# Altium schematic symbol library WA-SMSI.SchLib: 179 symbols (part 2 of 3)
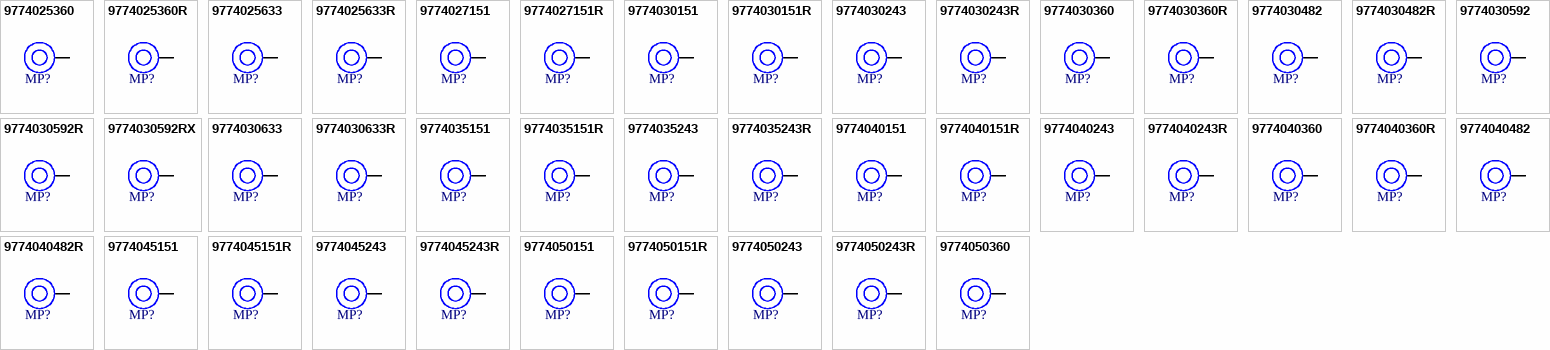
[diagram p5: symbols 9774025360 to 9774050360]

## 9774040360
designator MP?, comment M3 x 4mm  (value not drawn)
WA-SMSI SMT Steel Spacer with internal Thread, OD 6mm, M3 x 4mm; Manufacturer Part Number: 9774040360; Manufacturer: Wurth Elektronik; Inside Diameter: 4.2mm; Surface: Tin; ComponentLink1Description: Website Link; ComponentLink1URL: https://www.we-online.com/redexpert/article/9774040360?ad; ComponentLink2Description: Datasheet Link; ComponentLink2URL: https://www.we-online.com/redexpert/spec/9774040360?ad; Category: SMT Spacers; Match Code: WA-SMSI; Mount: Surface Mount; Operating Temperature Max: 150°C; Operating Temperature Min: -55°C; Packaging: Bulk; Height: 4mm; Material: Steel; Outside Diameter: 6mm; Thread Size: M3
footprint 9774040360
pins: 1

## 9774040360R
designator MP?, comment M3 x 4mm  (value not drawn)
WA-SMSI SMT Steel Spacer with internal Thread, OD 6mm, M3 x 4mm; Manufacturer Part Number: 9774040360R; Manufacturer: Wurth Elektronik; Inside Diameter: 4.2mm; Surface: Tin; ComponentLink1Description: Website Link; ComponentLink1URL: https://www.we-online.com/redexpert/article/9774040360R?ad; ComponentLink2Description: Datasheet Link; ComponentLink2URL: https://www.we-online.com/redexpert/spec/9774040360R?ad; Category: SMT Spacers; Match Code: WA-SMSI; Mount: Surface Mount; Operating Temperature Max: 150°C; Operating Temperature Min: -55°C; Packaging: Tape and Reel; Height: 4mm; Material: Steel; Outside Diameter: 6mm; Thread Size: M3
footprint 9774040360
pins: 1

## 9774040482
designator MP?, comment M4 x 4mm  (value not drawn)
WA-SMSI SMT Steel Spacer with internal Thread, OD 8.2mm, M4 x 4mm; Manufacturer Part Number: 9774040482; Manufacturer: Wurth Elektronik; Inside Diameter: 5.2mm; Surface: Tin; ComponentLink1Description: Website Link; ComponentLink1URL: https://www.we-online.com/redexpert/article/9774040482?ad; ComponentLink2Description: Datasheet Link; ComponentLink2URL: https://www.we-online.com/redexpert/spec/9774040482?ad; Category: SMT Spacers; Match Code: WA-SMSI; Mount: Surface Mount; Operating Temperature Max: 150°C; Operating Temperature Min: -55°C; Packaging: Bulk; Height: 4mm; Material: Steel; Outside Diameter: 8.2mm; Thread Size: M4
footprint 9774040482
pins: 1

## 9774040482R
designator MP?, comment M4 x 4mm  (value not drawn)
WA-SMSI SMT Steel Spacer with internal Thread, OD 8.2mm, M4 x 4mm; Manufacturer Part Number: 9774040482R; Manufacturer: Wurth Elektronik; Inside Diameter: 5.2mm; Surface: Tin; ComponentLink1Description: Website Link; ComponentLink1URL: https://www.we-online.com/redexpert/article/9774040482R?ad; ComponentLink2Description: Datasheet Link; ComponentLink2URL: https://www.we-online.com/redexpert/spec/9774040482R?ad; Category: SMT Spacers; Match Code: WA-SMSI; Mount: Surface Mount; Operating Temperature Max: 150°C; Operating Temperature Min: -55°C; Packaging: Tape and Reel; Height: 4mm; Material: Steel; Outside Diameter: 8.2mm; Thread Size: M4
footprint 9774040482
pins: 1

## 9774045151
designator MP?, comment M2.5 x 4.5mm  (value not drawn)
WA-SMSI SMT Steel Spacer with internal Thread, OD 5.1mm, M2.5 x 4.5mm; Manufacturer Part Number: 9774045151; Manufacturer: Wurth Elektronik; Inside Diameter: 3.5mm; Surface: Tin; ComponentLink1Description: Website Link; ComponentLink1URL: https://www.we-online.com/redexpert/article/9774045151?ad; ComponentLink2Description: Datasheet Link; ComponentLink2URL: https://www.we-online.com/redexpert/spec/9774045151?ad; Category: SMT Spacers; Match Code: WA-SMSI; Mount: Surface Mount; Operating Temperature Max: 150°C; Operating Temperature Min: -55°C; Packaging: Bulk; Height: 4.5mm; Material: Steel; Outside Diameter: 5.1mm; Thread Size: M2.5
footprint 9774045151
pins: 1

## 9774045151R
designator MP?, comment M2.5 x 4.5mm  (value not drawn)
WA-SMSI SMT Steel Spacer with internal Thread, OD 5.1mm, M2.5 x 4.5mm; Manufacturer Part Number: 9774045151R; Manufacturer: Wurth Elektronik; Inside Diameter: 3.5mm; Surface: Tin; ComponentLink1Description: Website Link; ComponentLink1URL: https://www.we-online.com/redexpert/article/9774045151R?ad; ComponentLink2Description: Datasheet Link; ComponentLink2URL: https://www.we-online.com/redexpert/spec/9774045151R?ad; Category: SMT Spacers; Match Code: WA-SMSI; Mount: Surface Mount; Operating Temperature Max: 150°C; Operating Temperature Min: -55°C; Packaging: Tape and Reel; Height: 4.5mm; Material: Steel; Outside Diameter: 5.1mm; Thread Size: M2.5
footprint 9774045151
pins: 1

## 9774045243
designator MP?, comment M2 x 4.5mm  (value not drawn)
WA-SMSI SMT Steel Spacer with internal Thread, OD 4.35mm, M2 x 4.5mm; Manufacturer Part Number: 9774045243; Manufacturer: Wurth Elektronik; Inside Diameter: 2.8mm; Surface: Tin; ComponentLink1Description: Website Link; ComponentLink1URL: https://www.we-online.com/redexpert/article/9774045243?ad; ComponentLink2Description: Datasheet Link; ComponentLink2URL: https://www.we-online.com/redexpert/spec/9774045243?ad; Category: SMT Spacers; Match Code: WA-SMSI; Mount: Surface Mount; Operating Temperature Max: 150°C; Operating Temperature Min: -55°C; Packaging: Bulk; Height: 4.5mm; Material: Steel; Outside Diameter: 4.35mm; Thread Size: M2
footprint 9774045243
pins: 1

## 9774045243R
designator MP?, comment M2 x 4.5mm  (value not drawn)
WA-SMSI SMT Steel Spacer with internal Thread, OD 4.35mm, M2 x 4.5mm; Manufacturer Part Number: 9774045243R; Manufacturer: Wurth Elektronik; Inside Diameter: 2.8mm; Surface: Tin; ComponentLink1Description: Website Link; ComponentLink1URL: https://www.we-online.com/redexpert/article/9774045243R?ad; ComponentLink2Description: Datasheet Link; ComponentLink2URL: https://www.we-online.com/redexpert/spec/9774045243R?ad; Category: SMT Spacers; Match Code: WA-SMSI; Mount: Surface Mount; Operating Temperature Max: 150°C; Operating Temperature Min: -55°C; Packaging: Tape and Reel; Height: 4.5mm; Material: Steel; Outside Diameter: 4.35mm; Thread Size: M2
footprint 9774045243
pins: 1

## 9774050151
designator MP?, comment M2.5 x 5mm  (value not drawn)
WA-SMSI SMT Steel Spacer with internal Thread, OD 5.1mm, M2.5 x 5mm; Manufacturer Part Number: 9774050151; Manufacturer: Wurth Elektronik; Inside Diameter: 3.5mm; Surface: Tin; ComponentLink1Description: Website Link; ComponentLink1URL: https://www.we-online.com/redexpert/article/9774050151?ad; ComponentLink2Description: Datasheet Link; ComponentLink2URL: https://www.we-online.com/redexpert/spec/9774050151?ad; Category: SMT Spacers; Match Code: WA-SMSI; Mount: Surface Mount; Operating Temperature Max: 150°C; Operating Temperature Min: -55°C; Packaging: Bulk; Height: 5mm; Material: Steel; Outside Diameter: 5.1mm; Thread Size: M2.5
footprint 9774050151
pins: 1

## 9774050151R
designator MP?, comment M2.5 x 5mm  (value not drawn)
WA-SMSI SMT Steel Spacer with internal Thread, OD 5.1mm, M2.5 x 5mm; Manufacturer Part Number: 9774050151R; Manufacturer: Wurth Elektronik; Inside Diameter: 3.5mm; Surface: Tin; ComponentLink1Description: Website Link; ComponentLink1URL: https://www.we-online.com/redexpert/article/9774050151R?ad; ComponentLink2Description: Datasheet Link; ComponentLink2URL: https://www.we-online.com/redexpert/spec/9774050151R?ad; Category: SMT Spacers; Match Code: WA-SMSI; Mount: Surface Mount; Operating Temperature Max: 150°C; Operating Temperature Min: -55°C; Packaging: Tape and Reel; Height: 5mm; Material: Steel; Outside Diameter: 5.1mm; Thread Size: M2.5
footprint 9774050151
pins: 1

## 9774050243
designator MP?, comment M2 x 5mm  (value not drawn)
WA-SMSI SMT Steel Spacer with internal Thread, OD 4.35mm, M2 x 5mm; Manufacturer Part Number: 9774050243; Manufacturer: Wurth Elektronik; Inside Diameter: 2.8mm; Surface: Tin; ComponentLink1Description: Website Link; ComponentLink1URL: https://www.we-online.com/redexpert/article/9774050243?ad; ComponentLink2Description: Datasheet Link; ComponentLink2URL: https://www.we-online.com/redexpert/spec/9774050243?ad; Category: SMT Spacers; Match Code: WA-SMSI; Mount: Surface Mount; Operating Temperature Max: 150°C; Operating Temperature Min: -55°C; Packaging: Bulk; Height: 5mm; Material: Steel; Outside Diameter: 4.35mm; Thread Size: M2
footprint 9774050243
pins: 1

## 9774050243R
designator MP?, comment M2 x 5mm  (value not drawn)
WA-SMSI SMT Steel Spacer with internal Thread, OD 4.35mm, M2 x 5mm; Manufacturer Part Number: 9774050243R; Manufacturer: Wurth Elektronik; Inside Diameter: 2.8mm; Surface: Tin; ComponentLink1Description: Website Link; ComponentLink1URL: https://www.we-online.com/redexpert/article/9774050243R?ad; ComponentLink2Description: Datasheet Link; ComponentLink2URL: https://www.we-online.com/redexpert/spec/9774050243R?ad; Category: SMT Spacers; Match Code: WA-SMSI; Mount: Surface Mount; Operating Temperature Max: 150°C; Operating Temperature Min: -55°C; Packaging: Tape and Reel; Height: 5mm; Material: Steel; Outside Diameter: 4.35mm; Thread Size: M2
footprint 9774050243
pins: 1

## 9774050360
designator MP?, comment M3 x 5mm  (value not drawn)
WA-SMSI SMT Steel Spacer with internal Thread, OD 6mm, M3 x 5mm; Manufacturer Part Number: 9774050360; Manufacturer: Wurth Elektronik; Inside Diameter: 4.2mm; Surface: Tin; ComponentLink1Description: Website Link; ComponentLink1URL: https://www.we-online.com/redexpert/article/9774050360?ad; ComponentLink2Description: Datasheet Link; ComponentLink2URL: https://www.we-online.com/redexpert/spec/9774050360?ad; Category: SMT Spacers; Match Code: WA-SMSI; Mount: Surface Mount; Operating Temperature Max: 150°C; Operating Temperature Min: -55°C; Packaging: Bulk; Height: 5mm; Material: Steel; Outside Diameter: 6mm; Thread Size: M3
footprint 9774050360
pins: 1

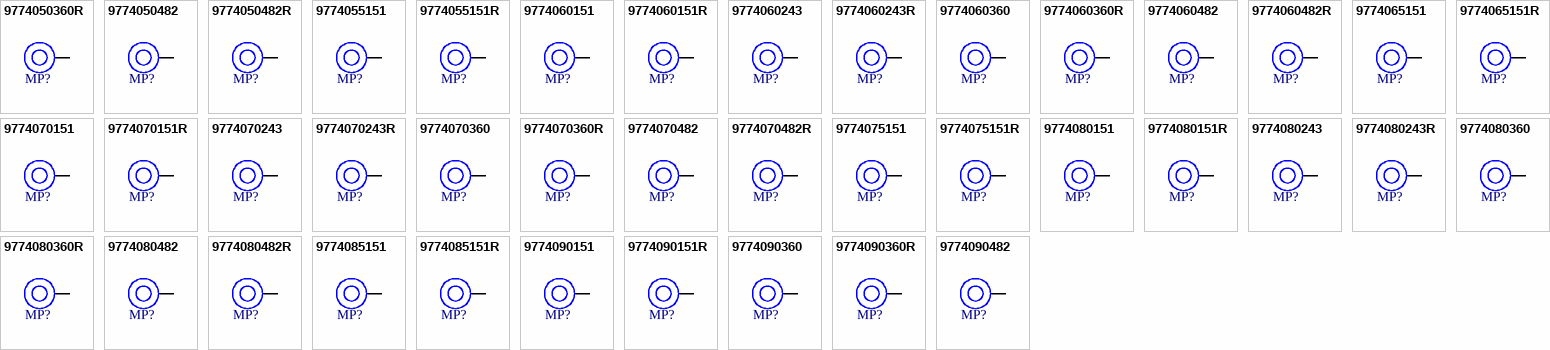
[diagram p2: symbols 9774050360R to 9774090482]

## 9774050360R
designator MP?, comment M3 x 5mm  (value not drawn)
WA-SMSI SMT Steel Spacer with internal Thread, OD 6mm, M3 x 5mm; Manufacturer Part Number: 9774050360R; Manufacturer: Wurth Elektronik; Inside Diameter: 4.2mm; Surface: Tin; ComponentLink1Description: Website Link; ComponentLink1URL: https://www.we-online.com/redexpert/article/9774050360R?ad; ComponentLink2Description: Datasheet Link; ComponentLink2URL: https://www.we-online.com/redexpert/spec/9774050360R?ad; Category: SMT Spacers; Match Code: WA-SMSI; Mount: Surface Mount; Operating Temperature Max: 150°C; Operating Temperature Min: -55°C; Packaging: Tape and Reel; Height: 5mm; Material: Steel; Outside Diameter: 6mm; Thread Size: M3
footprint 9774050360
pins: 1

## 9774050482
designator MP?, comment M4 x 5mm  (value not drawn)
WA-SMSI SMT Steel Spacer with internal Thread, OD 8.2mm, M4 x 5mm; Manufacturer Part Number: 9774050482; Manufacturer: Wurth Elektronik; Inside Diameter: 5.2mm; Surface: Tin; ComponentLink1Description: Website Link; ComponentLink1URL: https://www.we-online.com/redexpert/article/9774050482?ad; ComponentLink2Description: Datasheet Link; ComponentLink2URL: https://www.we-online.com/redexpert/spec/9774050482?ad; Category: SMT Spacers; Match Code: WA-SMSI; Mount: Surface Mount; Operating Temperature Max: 150°C; Operating Temperature Min: -55°C; Packaging: Bulk; Height: 5mm; Material: Steel; Outside Diameter: 8.2mm; Thread Size: M4
footprint 9774050482
pins: 1

## 9774050482R
designator MP?, comment M4 x 5mm  (value not drawn)
WA-SMSI SMT Steel Spacer with internal Thread, OD 8.2mm, M4 x 5mm; Manufacturer Part Number: 9774050482R; Manufacturer: Wurth Elektronik; Inside Diameter: 5.2mm; Surface: Tin; ComponentLink1Description: Website Link; ComponentLink1URL: https://www.we-online.com/redexpert/article/9774050482R?ad; ComponentLink2Description: Datasheet Link; ComponentLink2URL: https://www.we-online.com/redexpert/spec/9774050482R?ad; Category: SMT Spacers; Match Code: WA-SMSI; Mount: Surface Mount; Operating Temperature Max: 150°C; Operating Temperature Min: -55°C; Packaging: Tape and Reel; Height: 5mm; Material: Steel; Outside Diameter: 8.2mm; Thread Size: M4
footprint 9774050482
pins: 1

## 9774055151
designator MP?, comment M2.5 x 5.5mm  (value not drawn)
WA-SMSI SMT Steel Spacer with internal Thread, OD 5.1mm, M2.5 x 5.5mm; Manufacturer Part Number: 9774055151; Manufacturer: Wurth Elektronik; Inside Diameter: 3.5mm; Surface: Tin; ComponentLink1Description: Website Link; ComponentLink1URL: https://www.we-online.com/redexpert/article/9774055151?ad; ComponentLink2Description: Datasheet Link; ComponentLink2URL: https://www.we-online.com/redexpert/spec/9774055151?ad; Category: SMT Spacers; Match Code: WA-SMSI; Mount: Surface Mount; Operating Temperature Max: 150°C; Operating Temperature Min: -55°C; Packaging: Bulk; Height: 5.5mm; Material: Steel; Outside Diameter: 5.1mm; Thread Size: M2.5
footprint 9774055151
pins: 1

## 9774055151R
designator MP?, comment M2.5 x 5.5mm  (value not drawn)
WA-SMSI SMT Steel Spacer with internal Thread, OD 5.1mm, M2.5 x 5.5mm; Manufacturer Part Number: 9774055151R; Manufacturer: Wurth Elektronik; Inside Diameter: 3.5mm; Surface: Tin; ComponentLink1Description: Website Link; ComponentLink1URL: https://www.we-online.com/redexpert/article/9774055151R?ad; ComponentLink2Description: Datasheet Link; ComponentLink2URL: https://www.we-online.com/redexpert/spec/9774055151R?ad; Category: SMT Spacers; Match Code: WA-SMSI; Mount: Surface Mount; Operating Temperature Max: 150°C; Operating Temperature Min: -55°C; Packaging: Tape and Reel; Height: 5.5mm; Material: Steel; Outside Diameter: 5.1mm; Thread Size: M2.5
footprint 9774055151
pins: 1

## 9774060151
designator MP?, comment M2.5 x 6mm  (value not drawn)
WA-SMSI SMT Steel Spacer with internal Thread, OD 5.1mm, M2.5 x 6mm; Manufacturer Part Number: 9774060151; Manufacturer: Wurth Elektronik; Inside Diameter: 3.5mm; Surface: Tin; ComponentLink1Description: Website Link; ComponentLink1URL: https://www.we-online.com/redexpert/article/9774060151?ad; ComponentLink2Description: Datasheet Link; ComponentLink2URL: https://www.we-online.com/redexpert/spec/9774060151?ad; Category: SMT Spacers; Match Code: WA-SMSI; Mount: Surface Mount; Operating Temperature Max: 150°C; Operating Temperature Min: -55°C; Packaging: Bulk; Height: 6mm; Material: Steel; Outside Diameter: 5.1mm; Thread Size: M2.5
footprint 9774060151
pins: 1

## 9774060151R
designator MP?, comment M2.5 x 6mm  (value not drawn)
WA-SMSI SMT Steel Spacer with internal Thread, OD 5.1mm, M2.5 x 6mm; Manufacturer Part Number: 9774060151R; Manufacturer: Wurth Elektronik; Inside Diameter: 3.5mm; Surface: Tin; ComponentLink1Description: Website Link; ComponentLink1URL: https://www.we-online.com/redexpert/article/9774060151R?ad; ComponentLink2Description: Datasheet Link; ComponentLink2URL: https://www.we-online.com/redexpert/spec/9774060151R?ad; Category: SMT Spacers; Match Code: WA-SMSI; Mount: Surface Mount; Operating Temperature Max: 150°C; Operating Temperature Min: -55°C; Packaging: Tape and Reel; Height: 6mm; Material: Steel; Outside Diameter: 5.1mm; Thread Size: M2.5
footprint 9774060151
pins: 1

## 9774060243
designator MP?, comment M2 x 6mm  (value not drawn)
WA-SMSI SMT Steel Spacer with internal Thread, OD 4.35mm, M2 x 6mm; Manufacturer Part Number: 9774060243; Manufacturer: Wurth Elektronik; Inside Diameter: 2.8mm; Surface: Tin; ComponentLink1Description: Website Link; ComponentLink1URL: https://www.we-online.com/redexpert/article/9774060243?ad; ComponentLink2Description: Datasheet Link; ComponentLink2URL: https://www.we-online.com/redexpert/spec/9774060243?ad; Category: SMT Spacers; Match Code: WA-SMSI; Mount: Surface Mount; Operating Temperature Max: 150°C; Operating Temperature Min: -55°C; Packaging: Bulk; Height: 6mm; Material: Steel; Outside Diameter: 4.35mm; Thread Size: M2
footprint 9774060243
pins: 1

## 9774060243R
designator MP?, comment M2 x 6mm  (value not drawn)
WA-SMSI SMT Steel Spacer with internal Thread, OD 4.35mm, M2 x 6mm; Manufacturer Part Number: 9774060243R; Manufacturer: Wurth Elektronik; Inside Diameter: 2.8mm; Surface: Tin; ComponentLink1Description: Website Link; ComponentLink1URL: https://www.we-online.com/redexpert/article/9774060243R?ad; ComponentLink2Description: Datasheet Link; ComponentLink2URL: https://www.we-online.com/redexpert/spec/9774060243R?ad; Category: SMT Spacers; Match Code: WA-SMSI; Mount: Surface Mount; Operating Temperature Max: 150°C; Operating Temperature Min: -55°C; Packaging: Tape and Reel; Height: 6mm; Material: Steel; Outside Diameter: 4.35mm; Thread Size: M2
footprint 9774060243
pins: 1

## 9774060360
designator MP?, comment M3 x 6mm  (value not drawn)
WA-SMSI SMT Steel Spacer with internal Thread, OD 6mm, M3 x 6mm; Manufacturer Part Number: 9774060360; Manufacturer: Wurth Elektronik; Inside Diameter: 4.2mm; Surface: Tin; ComponentLink1Description: Website Link; ComponentLink1URL: https://www.we-online.com/redexpert/article/9774060360?ad; ComponentLink2Description: Datasheet Link; ComponentLink2URL: https://www.we-online.com/redexpert/spec/9774060360?ad; Category: SMT Spacers; Match Code: WA-SMSI; Mount: Surface Mount; Operating Temperature Max: 150°C; Operating Temperature Min: -55°C; Packaging: Bulk; Height: 6mm; Material: Steel; Outside Diameter: 6mm; Thread Size: M3
footprint 9774060360
pins: 1

## 9774060360R
designator MP?, comment M3 x 6mm  (value not drawn)
WA-SMSI SMT Steel Spacer with internal Thread, OD 6mm, M3 x 6mm; Manufacturer Part Number: 9774060360R; Manufacturer: Wurth Elektronik; Inside Diameter: 4.2mm; Surface: Tin; ComponentLink1Description: Website Link; ComponentLink1URL: https://www.we-online.com/redexpert/article/9774060360R?ad; ComponentLink2Description: Datasheet Link; ComponentLink2URL: https://www.we-online.com/redexpert/spec/9774060360R?ad; Category: SMT Spacers; Match Code: WA-SMSI; Mount: Surface Mount; Operating Temperature Max: 150°C; Operating Temperature Min: -55°C; Packaging: Tape and Reel; Height: 6mm; Material: Steel; Outside Diameter: 6mm; Thread Size: M3
footprint 9774060360
pins: 1

## 9774060482
designator MP?, comment M4 x 6mm  (value not drawn)
WA-SMSI SMT Steel Spacer with internal Thread, OD 8.2mm, M4 x 6mm; Manufacturer Part Number: 9774060482; Manufacturer: Wurth Elektronik; Inside Diameter: 5.2mm; Surface: Tin; ComponentLink1Description: Website Link; ComponentLink1URL: https://www.we-online.com/redexpert/article/9774060482?ad; ComponentLink2Description: Datasheet Link; ComponentLink2URL: https://www.we-online.com/redexpert/spec/9774060482?ad; Category: SMT Spacers; Match Code: WA-SMSI; Mount: Surface Mount; Operating Temperature Max: 150°C; Operating Temperature Min: -55°C; Packaging: Bulk; Height: 6mm; Material: Steel; Outside Diameter: 8.2mm; Thread Size: M4
footprint 9774060482
pins: 1

## 9774060482R
designator MP?, comment M4 x 6mm  (value not drawn)
WA-SMSI SMT Steel Spacer with internal Thread, OD 8.2mm, M4 x 6mm; Manufacturer Part Number: 9774060482R; Manufacturer: Wurth Elektronik; Inside Diameter: 5.2mm; Surface: Tin; ComponentLink1Description: Website Link; ComponentLink1URL: https://www.we-online.com/redexpert/article/9774060482R?ad; ComponentLink2Description: Datasheet Link; ComponentLink2URL: https://www.we-online.com/redexpert/spec/9774060482R?ad; Category: SMT Spacers; Match Code: WA-SMSI; Mount: Surface Mount; Operating Temperature Max: 150°C; Operating Temperature Min: -55°C; Packaging: Tape and Reel; Height: 6mm; Material: Steel; Outside Diameter: 8.2mm; Thread Size: M4
footprint 9774060482
pins: 1

## 9774065151
designator MP?, comment M2.5 x 6.5mm  (value not drawn)
WA-SMSI SMT Steel Spacer with internal Thread, OD 5.1mm, M2.5 x 6.5mm; Manufacturer Part Number: 9774065151; Manufacturer: Wurth Elektronik; Inside Diameter: 3.5mm; Surface: Tin; ComponentLink1Description: Website Link; ComponentLink1URL: https://www.we-online.com/redexpert/article/9774065151?ad; ComponentLink2Description: Datasheet Link; ComponentLink2URL: https://www.we-online.com/redexpert/spec/9774065151?ad; Category: SMT Spacers; Match Code: WA-SMSI; Mount: Surface Mount; Operating Temperature Max: 150°C; Operating Temperature Min: -55°C; Packaging: Bulk; Height: 6.5mm; Material: Steel; Outside Diameter: 5.1mm; Thread Size: M2.5
footprint 9774065151
pins: 1

## 9774065151R
designator MP?, comment M2.5 x 6.5mm  (value not drawn)
WA-SMSI SMT Steel Spacer with internal Thread, OD 5.1mm, M2.5 x 6.5mm; Manufacturer Part Number: 9774065151R; Manufacturer: Wurth Elektronik; Inside Diameter: 3.5mm; Surface: Tin; ComponentLink1Description: Website Link; ComponentLink1URL: https://www.we-online.com/redexpert/article/9774065151R?ad; ComponentLink2Description: Datasheet Link; ComponentLink2URL: https://www.we-online.com/redexpert/spec/9774065151R?ad; Category: SMT Spacers; Match Code: WA-SMSI; Mount: Surface Mount; Operating Temperature Max: 150°C; Operating Temperature Min: -55°C; Packaging: Tape and Reel; Height: 6.5mm; Material: Steel; Outside Diameter: 5.1mm; Thread Size: M2.5
footprint 9774065151
pins: 1

## 9774070151
designator MP?, comment M2.5 x 7mm  (value not drawn)
WA-SMSI SMT Steel Spacer with internal Thread, OD 5.1mm, M2.5 x 7mm; Manufacturer Part Number: 9774070151; Manufacturer: Wurth Elektronik; Inside Diameter: 3.5mm; Surface: Tin; ComponentLink1Description: Website Link; ComponentLink1URL: https://www.we-online.com/redexpert/article/9774070151?ad; ComponentLink2Description: Datasheet Link; ComponentLink2URL: https://www.we-online.com/redexpert/spec/9774070151?ad; Category: SMT Spacers; Match Code: WA-SMSI; Mount: Surface Mount; Operating Temperature Max: 150°C; Operating Temperature Min: -55°C; Packaging: Bulk; Height: 7mm; Material: Steel; Outside Diameter: 5.1mm; Thread Size: M2.5
footprint 9774070151
pins: 1

## 9774070151R
designator MP?, comment M2.5 x 7mm  (value not drawn)
WA-SMSI SMT Steel Spacer with internal Thread, OD 5.1mm, M2.5 x 7mm; Manufacturer Part Number: 9774070151R; Manufacturer: Wurth Elektronik; Inside Diameter: 3.5mm; Surface: Tin; ComponentLink1Description: Website Link; ComponentLink1URL: https://www.we-online.com/redexpert/article/9774070151R?ad; ComponentLink2Description: Datasheet Link; ComponentLink2URL: https://www.we-online.com/redexpert/spec/9774070151R?ad; Category: SMT Spacers; Match Code: WA-SMSI; Mount: Surface Mount; Operating Temperature Max: 150°C; Operating Temperature Min: -55°C; Packaging: Tape and Reel; Height: 7mm; Material: Steel; Outside Diameter: 5.1mm; Thread Size: M2.5
footprint 9774070151
pins: 1

## 9774070243
designator MP?, comment M2 x 7mm  (value not drawn)
WA-SMSI SMT Steel Spacer with internal Thread, OD 4.35mm, M2 x 7mm; Manufacturer Part Number: 9774070243; Manufacturer: Wurth Elektronik; Inside Diameter: 2.8mm; Surface: Tin; ComponentLink1Description: Website Link; ComponentLink1URL: https://www.we-online.com/redexpert/article/9774070243?ad; ComponentLink2Description: Datasheet Link; ComponentLink2URL: https://www.we-online.com/redexpert/spec/9774070243?ad; Category: SMT Spacers; Match Code: WA-SMSI; Mount: Surface Mount; Operating Temperature Max: 150°C; Operating Temperature Min: -55°C; Packaging: Bulk; Height: 7mm; Material: Steel; Outside Diameter: 4.35mm; Thread Size: M2
footprint 9774070243
pins: 1

## 9774070243R
designator MP?, comment M2 x 7mm  (value not drawn)
WA-SMSI SMT Steel Spacer with internal Thread, OD 4.35mm, M2 x 7mm; Manufacturer Part Number: 9774070243R; Manufacturer: Wurth Elektronik; Inside Diameter: 2.8mm; Surface: Tin; ComponentLink1Description: Website Link; ComponentLink1URL: https://www.we-online.com/redexpert/article/9774070243R?ad; ComponentLink2Description: Datasheet Link; ComponentLink2URL: https://www.we-online.com/redexpert/spec/9774070243R?ad; Category: SMT Spacers; Match Code: WA-SMSI; Mount: Surface Mount; Operating Temperature Max: 150°C; Operating Temperature Min: -55°C; Packaging: Tape and Reel; Height: 7mm; Material: Steel; Outside Diameter: 4.35mm; Thread Size: M2
footprint 9774070243
pins: 1

## 9774070360
designator MP?, comment M3 x 7mm  (value not drawn)
WA-SMSI SMT Steel Spacer with internal Thread, OD 6mm, M3 x 7mm; Manufacturer Part Number: 9774070360; Manufacturer: Wurth Elektronik; Inside Diameter: 4.2mm; Surface: Tin; ComponentLink1Description: Website Link; ComponentLink1URL: https://www.we-online.com/redexpert/article/9774070360?ad; ComponentLink2Description: Datasheet Link; ComponentLink2URL: https://www.we-online.com/redexpert/spec/9774070360?ad; Category: SMT Spacers; Match Code: WA-SMSI; Mount: Surface Mount; Operating Temperature Max: 150°C; Operating Temperature Min: -55°C; Packaging: Bulk; Height: 7mm; Material: Steel; Outside Diameter: 6mm; Thread Size: M3
footprint 9774070360
pins: 1

## 9774070360R
designator MP?, comment M3 x 7mm  (value not drawn)
WA-SMSI SMT Steel Spacer with internal Thread, OD 6mm, M3 x 7mm; Manufacturer Part Number: 9774070360R; Manufacturer: Wurth Elektronik; Inside Diameter: 4.2mm; Surface: Tin; ComponentLink1Description: Website Link; ComponentLink1URL: https://www.we-online.com/redexpert/article/9774070360R?ad; ComponentLink2Description: Datasheet Link; ComponentLink2URL: https://www.we-online.com/redexpert/spec/9774070360R?ad; Category: SMT Spacers; Match Code: WA-SMSI; Mount: Surface Mount; Operating Temperature Max: 150°C; Operating Temperature Min: -55°C; Packaging: Tape and Reel; Height: 7mm; Material: Steel; Outside Diameter: 6mm; Thread Size: M3
footprint 9774070360
pins: 1

## 9774070482
designator MP?, comment M4 x 7mm  (value not drawn)
WA-SMSI SMT Steel Spacer with internal Thread, OD 8.2mm, M4 x 7mm; Manufacturer Part Number: 9774070482; Manufacturer: Wurth Elektronik; Inside Diameter: 5.2mm; Surface: Tin; ComponentLink1Description: Website Link; ComponentLink1URL: https://www.we-online.com/redexpert/article/9774070482?ad; ComponentLink2Description: Datasheet Link; ComponentLink2URL: https://www.we-online.com/redexpert/spec/9774070482?ad; Category: SMT Spacers; Match Code: WA-SMSI; Mount: Surface Mount; Operating Temperature Max: 150°C; Operating Temperature Min: -55°C; Packaging: Bulk; Height: 7mm; Material: Steel; Outside Diameter: 8.2mm; Thread Size: M4
footprint 9774070482
pins: 1

## 9774070482R
designator MP?, comment M4 x 7mm  (value not drawn)
WA-SMSI SMT Steel Spacer with internal Thread, OD 8.2mm, M4 x 7mm; Manufacturer Part Number: 9774070482R; Manufacturer: Wurth Elektronik; Inside Diameter: 5.2mm; Surface: Tin; ComponentLink1Description: Website Link; ComponentLink1URL: https://www.we-online.com/redexpert/article/9774070482R?ad; ComponentLink2Description: Datasheet Link; ComponentLink2URL: https://www.we-online.com/redexpert/spec/9774070482R?ad; Category: SMT Spacers; Match Code: WA-SMSI; Mount: Surface Mount; Operating Temperature Max: 150°C; Operating Temperature Min: -55°C; Packaging: Tape and Reel; Height: 7mm; Material: Steel; Outside Diameter: 8.2mm; Thread Size: M4
footprint 9774070482
pins: 1

## 9774075151
designator MP?, comment M2.5 x 7.5mm  (value not drawn)
WA-SMSI SMT Steel Spacer with internal Thread, OD 5.1mm, M2.5 x 7.5mm; Manufacturer Part Number: 9774075151; Manufacturer: Wurth Elektronik; Inside Diameter: 3.5mm; Surface: Tin; ComponentLink1Description: Website Link; ComponentLink1URL: https://www.we-online.com/redexpert/article/9774075151?ad; ComponentLink2Description: Datasheet Link; ComponentLink2URL: https://www.we-online.com/redexpert/spec/9774075151?ad; Category: SMT Spacers; Match Code: WA-SMSI; Mount: Surface Mount; Operating Temperature Max: 150°C; Operating Temperature Min: -55°C; Packaging: Bulk; Height: 7.5mm; Material: Steel; Outside Diameter: 5.1mm; Thread Size: M2.5
footprint 9774075151
pins: 1

## 9774075151R
designator MP?, comment M2.5 x 7.5mm  (value not drawn)
WA-SMSI SMT Steel Spacer with internal Thread, OD 5.1mm, M2.5 x 7.5mm; Manufacturer Part Number: 9774075151R; Manufacturer: Wurth Elektronik; Inside Diameter: 3.5mm; Surface: Tin; ComponentLink1Description: Website Link; ComponentLink1URL: https://www.we-online.com/redexpert/article/9774075151R?ad; ComponentLink2Description: Datasheet Link; ComponentLink2URL: https://www.we-online.com/redexpert/spec/9774075151R?ad; Category: SMT Spacers; Match Code: WA-SMSI; Mount: Surface Mount; Operating Temperature Max: 150°C; Operating Temperature Min: -55°C; Packaging: Tape and Reel; Height: 7.5mm; Material: Steel; Outside Diameter: 5.1mm; Thread Size: M2.5
footprint 9774075151
pins: 1

## 9774080151
designator MP?, comment M2.5 x 8mm  (value not drawn)
WA-SMSI SMT Steel Spacer with internal Thread, OD 5.1mm, M2.5 x 8mm; Manufacturer Part Number: 9774080151; Manufacturer: Wurth Elektronik; Inside Diameter: 3.5mm; Surface: Tin; ComponentLink1Description: Website Link; ComponentLink1URL: https://www.we-online.com/redexpert/article/9774080151?ad; ComponentLink2Description: Datasheet Link; ComponentLink2URL: https://www.we-online.com/redexpert/spec/9774080151?ad; Category: SMT Spacers; Match Code: WA-SMSI; Mount: Surface Mount; Operating Temperature Max: 150°C; Operating Temperature Min: -55°C; Packaging: Bulk; Height: 8mm; Material: Steel; Outside Diameter: 5.1mm; Thread Size: M2.5
footprint 9774080151
pins: 1

## 9774080151R
designator MP?, comment M2.5 x 8mm  (value not drawn)
WA-SMSI SMT Steel Spacer with internal Thread, OD 5.1mm, M2.5 x 8mm; Manufacturer Part Number: 9774080151R; Manufacturer: Wurth Elektronik; Inside Diameter: 3.5mm; Surface: Tin; ComponentLink1Description: Website Link; ComponentLink1URL: https://www.we-online.com/redexpert/article/9774080151R?ad; ComponentLink2Description: Datasheet Link; ComponentLink2URL: https://www.we-online.com/redexpert/spec/9774080151R?ad; Category: SMT Spacers; Match Code: WA-SMSI; Mount: Surface Mount; Operating Temperature Max: 150°C; Operating Temperature Min: -55°C; Packaging: Tape and Reel; Height: 8mm; Material: Steel; Outside Diameter: 5.1mm; Thread Size: M2.5
footprint 9774080151
pins: 1

## 9774080243
designator MP?, comment M2 x 8mm  (value not drawn)
WA-SMSI SMT Steel Spacer with internal Thread, OD 4.35mm, M2 x 8mm; Manufacturer Part Number: 9774080243; Manufacturer: Wurth Elektronik; Inside Diameter: 2.8mm; Surface: Tin; ComponentLink1Description: Website Link; ComponentLink1URL: https://www.we-online.com/redexpert/article/9774080243?ad; ComponentLink2Description: Datasheet Link; ComponentLink2URL: https://www.we-online.com/redexpert/spec/9774080243?ad; Category: SMT Spacers; Match Code: WA-SMSI; Mount: Surface Mount; Operating Temperature Max: 150°C; Operating Temperature Min: -55°C; Packaging: Bulk; Height: 8mm; Material: Steel; Outside Diameter: 4.35mm; Thread Size: M2
footprint 9774080243
pins: 1

## 9774080243R
designator MP?, comment M2 x 8mm  (value not drawn)
WA-SMSI SMT Steel Spacer with internal Thread, OD 4.35mm, M2 x 8mm; Manufacturer Part Number: 9774080243R; Manufacturer: Wurth Elektronik; Inside Diameter: 2.8mm; Surface: Tin; ComponentLink1Description: Website Link; ComponentLink1URL: https://www.we-online.com/redexpert/article/9774080243R?ad; ComponentLink2Description: Datasheet Link; ComponentLink2URL: https://www.we-online.com/redexpert/spec/9774080243R?ad; Category: SMT Spacers; Match Code: WA-SMSI; Mount: Surface Mount; Operating Temperature Max: 150°C; Operating Temperature Min: -55°C; Packaging: Tape and Reel; Height: 8mm; Material: Steel; Outside Diameter: 4.35mm; Thread Size: M2
footprint 9774080243
pins: 1

## 9774080360
designator MP?, comment M3 x 8mm  (value not drawn)
WA-SMSI SMT Steel Spacer with internal Thread, OD 6mm, M3 x 8mm; Manufacturer Part Number: 9774080360; Manufacturer: Wurth Elektronik; Inside Diameter: 4.2mm; Surface: Tin; ComponentLink1Description: Website Link; ComponentLink1URL: https://www.we-online.com/redexpert/article/9774080360?ad; ComponentLink2Description: Datasheet Link; ComponentLink2URL: https://www.we-online.com/redexpert/spec/9774080360?ad; Category: SMT Spacers; Match Code: WA-SMSI; Mount: Surface Mount; Operating Temperature Max: 150°C; Operating Temperature Min: -55°C; Packaging: Bulk; Height: 8mm; Material: Steel; Outside Diameter: 6mm; Thread Size: M3
footprint 9774080360
pins: 1

## 9774080360R
designator MP?, comment M3 x 8mm  (value not drawn)
WA-SMSI SMT Steel Spacer with internal Thread, OD 6mm, M3 x 8mm; Manufacturer Part Number: 9774080360R; Manufacturer: Wurth Elektronik; Inside Diameter: 4.2mm; Surface: Tin; ComponentLink1Description: Website Link; ComponentLink1URL: https://www.we-online.com/redexpert/article/9774080360R?ad; ComponentLink2Description: Datasheet Link; ComponentLink2URL: https://www.we-online.com/redexpert/spec/9774080360R?ad; Category: SMT Spacers; Match Code: WA-SMSI; Mount: Surface Mount; Operating Temperature Max: 150°C; Operating Temperature Min: -55°C; Packaging: Tape and Reel; Height: 8mm; Material: Steel; Outside Diameter: 6mm; Thread Size: M3
footprint 9774080360
pins: 1

## 9774080482
designator MP?, comment M4 x 8mm  (value not drawn)
WA-SMSI SMT Steel Spacer with internal Thread, OD 8.2mm, M4 x 8mm; Manufacturer Part Number: 9774080482; Manufacturer: Wurth Elektronik; Inside Diameter: 5.2mm; Surface: Tin; ComponentLink1Description: Website Link; ComponentLink1URL: https://www.we-online.com/redexpert/article/9774080482?ad; ComponentLink2Description: Datasheet Link; ComponentLink2URL: https://www.we-online.com/redexpert/spec/9774080482?ad; Category: SMT Spacers; Match Code: WA-SMSI; Mount: Surface Mount; Operating Temperature Max: 150°C; Operating Temperature Min: -55°C; Packaging: Bulk; Height: 8mm; Material: Steel; Outside Diameter: 8.2mm; Thread Size: M4
footprint 9774080482
pins: 1

## 9774080482R
designator MP?, comment M4 x 8mm  (value not drawn)
WA-SMSI SMT Steel Spacer with internal Thread, OD 8.2mm, M4 x 8mm; Manufacturer Part Number: 9774080482R; Manufacturer: Wurth Elektronik; Inside Diameter: 5.2mm; Surface: Tin; ComponentLink1Description: Website Link; ComponentLink1URL: https://www.we-online.com/redexpert/article/9774080482R?ad; ComponentLink2Description: Datasheet Link; ComponentLink2URL: https://www.we-online.com/redexpert/spec/9774080482R?ad; Category: SMT Spacers; Match Code: WA-SMSI; Mount: Surface Mount; Operating Temperature Max: 150°C; Operating Temperature Min: -55°C; Packaging: Tape and Reel; Height: 8mm; Material: Steel; Outside Diameter: 8.2mm; Thread Size: M4
footprint 9774080482
pins: 1

## 9774085151
designator MP?, comment M2.5 x 8.5mm  (value not drawn)
WA-SMSI SMT Steel Spacer with internal Thread, OD 5.1mm, M2.5 x 8.5mm; Manufacturer Part Number: 9774085151; Manufacturer: Wurth Elektronik; Inside Diameter: 3.5mm; Surface: Tin; ComponentLink1Description: Website Link; ComponentLink1URL: https://www.we-online.com/redexpert/article/9774085151?ad; ComponentLink2Description: Datasheet Link; ComponentLink2URL: https://www.we-online.com/redexpert/spec/9774085151?ad; Category: SMT Spacers; Match Code: WA-SMSI; Mount: Surface Mount; Operating Temperature Max: 150°C; Operating Temperature Min: -55°C; Packaging: Bulk; Height: 8.5mm; Material: Steel; Outside Diameter: 5.1mm; Thread Size: M2.5
footprint 9774085151
pins: 1

## 9774085151R
designator MP?, comment M2.5 x 8.5mm  (value not drawn)
WA-SMSI SMT Steel Spacer with internal Thread, OD 5.1mm, M2.5 x 8.5mm; Manufacturer Part Number: 9774085151R; Manufacturer: Wurth Elektronik; Inside Diameter: 3.5mm; Surface: Tin; ComponentLink1Description: Website Link; ComponentLink1URL: https://www.we-online.com/redexpert/article/9774085151R?ad; ComponentLink2Description: Datasheet Link; ComponentLink2URL: https://www.we-online.com/redexpert/spec/9774085151R?ad; Category: SMT Spacers; Match Code: WA-SMSI; Mount: Surface Mount; Operating Temperature Max: 150°C; Operating Temperature Min: -55°C; Packaging: Tape and Reel; Height: 8.5mm; Material: Steel; Outside Diameter: 5.1mm; Thread Size: M2.5
footprint 9774085151
pins: 1

## 9774090151
designator MP?, comment M2.5 x 9mm  (value not drawn)
WA-SMSI SMT Steel Spacer with internal Thread, OD 5.1mm, M2.5 x 9mm; Manufacturer Part Number: 9774090151; Manufacturer: Wurth Elektronik; Inside Diameter: 3.5mm; Surface: Tin; ComponentLink1Description: Website Link; ComponentLink1URL: https://www.we-online.com/redexpert/article/9774090151?ad; ComponentLink2Description: Datasheet Link; ComponentLink2URL: https://www.we-online.com/redexpert/spec/9774090151?ad; Category: SMT Spacers; Match Code: WA-SMSI; Mount: Surface Mount; Operating Temperature Max: 150°C; Operating Temperature Min: -55°C; Packaging: Bulk; Height: 9mm; Material: Steel; Outside Diameter: 5.1mm; Thread Size: M2.5
footprint 9774090151
pins: 1

## 9774090151R
designator MP?, comment M2.5 x 9mm  (value not drawn)
WA-SMSI SMT Steel Spacer with internal Thread, OD 5.1mm, M2.5 x 9mm; Manufacturer Part Number: 9774090151R; Manufacturer: Wurth Elektronik; Inside Diameter: 3.5mm; Surface: Tin; ComponentLink1Description: Website Link; ComponentLink1URL: https://www.we-online.com/redexpert/article/9774090151R?ad; ComponentLink2Description: Datasheet Link; ComponentLink2URL: https://www.we-online.com/redexpert/spec/9774090151R?ad; Category: SMT Spacers; Match Code: WA-SMSI; Mount: Surface Mount; Operating Temperature Max: 150°C; Operating Temperature Min: -55°C; Packaging: Tape and Reel; Height: 9mm; Material: Steel; Outside Diameter: 5.1mm; Thread Size: M2.5
footprint 9774090151
pins: 1

## 9774090360
designator MP?, comment M3 x 9mm  (value not drawn)
WA-SMSI SMT Steel Spacer with internal Thread, OD 6mm, M3 x 9mm; Manufacturer Part Number: 9774090360; Manufacturer: Wurth Elektronik; Inside Diameter: 4.2mm; Surface: Tin; ComponentLink1Description: Website Link; ComponentLink1URL: https://www.we-online.com/redexpert/article/9774090360?ad; ComponentLink2Description: Datasheet Link; ComponentLink2URL: https://www.we-online.com/redexpert/spec/9774090360?ad; Category: SMT Spacers; Match Code: WA-SMSI; Mount: Surface Mount; Operating Temperature Max: 150°C; Operating Temperature Min: -55°C; Packaging: Bulk; Height: 9mm; Material: Steel; Outside Diameter: 6mm; Thread Size: M3
footprint 9774090360
pins: 1

## 9774090360R
designator MP?, comment M3 x 9mm  (value not drawn)
WA-SMSI SMT Steel Spacer with internal Thread, OD 6mm, M3 x 9mm; Manufacturer Part Number: 9774090360R; Manufacturer: Wurth Elektronik; Inside Diameter: 4.2mm; Surface: Tin; ComponentLink1Description: Website Link; ComponentLink1URL: https://www.we-online.com/redexpert/article/9774090360R?ad; ComponentLink2Description: Datasheet Link; ComponentLink2URL: https://www.we-online.com/redexpert/spec/9774090360R?ad; Category: SMT Spacers; Match Code: WA-SMSI; Mount: Surface Mount; Operating Temperature Max: 150°C; Operating Temperature Min: -55°C; Packaging: Tape and Reel; Height: 9mm; Material: Steel; Outside Diameter: 6mm; Thread Size: M3
footprint 9774090360
pins: 1

## 9774090482
designator MP?, comment M4 x 9mm  (value not drawn)
WA-SMSI SMT Steel Spacer with internal Thread, OD 8.2mm, M4 x 9mm; Manufacturer Part Number: 9774090482; Manufacturer: Wurth Elektronik; Inside Diameter: 5.2mm; Surface: Tin; ComponentLink1Description: Website Link; ComponentLink1URL: https://www.we-online.com/redexpert/article/9774090482?ad; ComponentLink2Description: Datasheet Link; ComponentLink2URL: https://www.we-online.com/redexpert/spec/9774090482?ad; Category: SMT Spacers; Match Code: WA-SMSI; Mount: Surface Mount; Operating Temperature Max: 150°C; Operating Temperature Min: -55°C; Packaging: Bulk; Height: 9mm; Material: Steel; Outside Diameter: 8.2mm; Thread Size: M4
footprint 9774090482
pins: 1

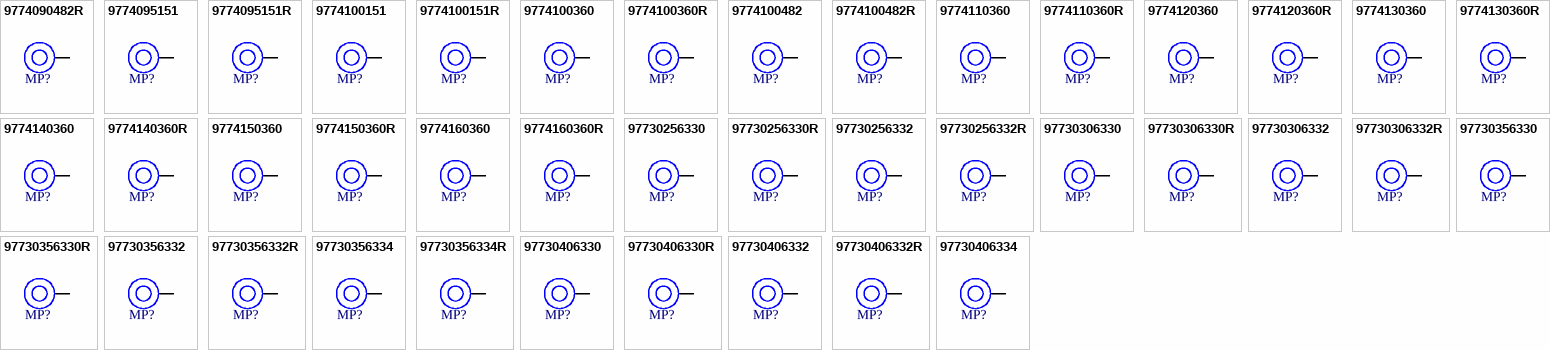
[diagram p3: symbols 9774090482R to 97730406334]

## 9774090482R
designator MP?, comment M4 x 9mm  (value not drawn)
WA-SMSI SMT Steel Spacer with internal Thread, OD 8.2mm, M4 x 9mm; Manufacturer Part Number: 9774090482R; Manufacturer: Wurth Elektronik; Inside Diameter: 5.2mm; Surface: Tin; ComponentLink1Description: Website Link; ComponentLink1URL: https://www.we-online.com/redexpert/article/9774090482R?ad; ComponentLink2Description: Datasheet Link; ComponentLink2URL: https://www.we-online.com/redexpert/spec/9774090482R?ad; Category: SMT Spacers; Match Code: WA-SMSI; Mount: Surface Mount; Operating Temperature Max: 150°C; Operating Temperature Min: -55°C; Packaging: Tape and Reel; Height: 9mm; Material: Steel; Outside Diameter: 8.2mm; Thread Size: M4
footprint 9774090482
pins: 1

## 9774095151
designator MP?, comment M2.5 x 9.5mm  (value not drawn)
WA-SMSI SMT Steel Spacer with internal Thread, OD 5.1mm, M2.5 x 9.5mm; Manufacturer Part Number: 9774095151; Manufacturer: Wurth Elektronik; Inside Diameter: 3.5mm; Surface: Tin; ComponentLink1Description: Website Link; ComponentLink1URL: https://www.we-online.com/redexpert/article/9774095151?ad; ComponentLink2Description: Datasheet Link; ComponentLink2URL: https://www.we-online.com/redexpert/spec/9774095151?ad; Category: SMT Spacers; Match Code: WA-SMSI; Mount: Surface Mount; Operating Temperature Max: 150°C; Operating Temperature Min: -55°C; Packaging: Bulk; Height: 9.5mm; Material: Steel; Outside Diameter: 5.1mm; Thread Size: M2.5
footprint 9774095151
pins: 1

## 9774095151R
designator MP?, comment M2.5 x 9.5mm  (value not drawn)
WA-SMSI SMT Steel Spacer with internal Thread, OD 5.1mm, M2.5 x 9.5mm; Manufacturer Part Number: 9774095151R; Manufacturer: Wurth Elektronik; Inside Diameter: 3.5mm; Surface: Tin; ComponentLink1Description: Website Link; ComponentLink1URL: https://www.we-online.com/redexpert/article/9774095151R?ad; ComponentLink2Description: Datasheet Link; ComponentLink2URL: https://www.we-online.com/redexpert/spec/9774095151R?ad; Category: SMT Spacers; Match Code: WA-SMSI; Mount: Surface Mount; Operating Temperature Max: 150°C; Operating Temperature Min: -55°C; Packaging: Tape and Reel; Height: 9.5mm; Material: Steel; Outside Diameter: 5.1mm; Thread Size: M2.5
footprint 9774095151
pins: 1

## 9774100151
designator MP?, comment M2.5 x 10mm  (value not drawn)
WA-SMSI SMT Steel Spacer with internal Thread, OD 5.1mm, M2.5 x 10mm; Manufacturer Part Number: 9774100151; Manufacturer: Wurth Elektronik; Inside Diameter: 3.5mm; Surface: Tin; ComponentLink1Description: Website Link; ComponentLink1URL: https://www.we-online.com/redexpert/article/9774100151?ad; ComponentLink2Description: Datasheet Link; ComponentLink2URL: https://www.we-online.com/redexpert/spec/9774100151?ad; Category: SMT Spacers; Match Code: WA-SMSI; Mount: Surface Mount; Operating Temperature Max: 150°C; Operating Temperature Min: -55°C; Packaging: Bulk; Height: 10mm; Material: Steel; Outside Diameter: 5.1mm; Thread Size: M2.5
footprint 9774100151
pins: 1

## 9774100151R
designator MP?, comment M2.5 x 10mm  (value not drawn)
WA-SMSI SMT Steel Spacer with internal Thread, OD 5.1mm, M2.5 x 10mm; Manufacturer Part Number: 9774100151R; Manufacturer: Wurth Elektronik; Inside Diameter: 3.5mm; Surface: Tin; ComponentLink1Description: Website Link; ComponentLink1URL: https://www.we-online.com/redexpert/article/9774100151R?ad; ComponentLink2Description: Datasheet Link; ComponentLink2URL: https://www.we-online.com/redexpert/spec/9774100151R?ad; Category: SMT Spacers; Match Code: WA-SMSI; Mount: Surface Mount; Operating Temperature Max: 150°C; Operating Temperature Min: -55°C; Packaging: Tape and Reel; Height: 10mm; Material: Steel; Outside Diameter: 5.1mm; Thread Size: M2.5
footprint 9774100151
pins: 1

## 9774100360
designator MP?, comment M3 x 10mm  (value not drawn)
WA-SMSI SMT Steel Spacer with internal Thread, OD 6mm, M3 x 10mm; Manufacturer Part Number: 9774100360; Manufacturer: Wurth Elektronik; Inside Diameter: 4.2mm; Surface: Tin; ComponentLink1Description: Website Link; ComponentLink1URL: https://www.we-online.com/redexpert/article/9774100360?ad; ComponentLink2Description: Datasheet Link; ComponentLink2URL: https://www.we-online.com/redexpert/spec/9774100360?ad; Category: SMT Spacers; Match Code: WA-SMSI; Mount: Surface Mount; Operating Temperature Max: 150°C; Operating Temperature Min: -55°C; Packaging: Bulk; Height: 10mm; Material: Steel; Outside Diameter: 6mm; Thread Size: M3
footprint 9774100360
pins: 1

## 9774100360R
designator MP?, comment M3 x 10mm  (value not drawn)
WA-SMSI SMT Steel Spacer with internal Thread, OD 6mm, M3 x 10mm; Manufacturer Part Number: 9774100360R; Manufacturer: Wurth Elektronik; Inside Diameter: 4.2mm; Surface: Tin; ComponentLink1Description: Website Link; ComponentLink1URL: https://www.we-online.com/redexpert/article/9774100360R?ad; ComponentLink2Description: Datasheet Link; ComponentLink2URL: https://www.we-online.com/redexpert/spec/9774100360R?ad; Category: SMT Spacers; Match Code: WA-SMSI; Mount: Surface Mount; Operating Temperature Max: 150°C; Operating Temperature Min: -55°C; Packaging: Tape and Reel; Height: 10mm; Material: Steel; Outside Diameter: 6mm; Thread Size: M3
footprint 9774100360
pins: 1

## 9774100482
designator MP?, comment M4 x 10mm  (value not drawn)
WA-SMSI SMT Steel Spacer with internal Thread, OD 8.2mm, M4 x 10mm; Manufacturer Part Number: 9774100482; Manufacturer: Wurth Elektronik; Inside Diameter: 5.2mm; Surface: Tin; ComponentLink1Description: Website Link; ComponentLink1URL: https://www.we-online.com/redexpert/article/9774100482?ad; ComponentLink2Description: Datasheet Link; ComponentLink2URL: https://www.we-online.com/redexpert/spec/9774100482?ad; Category: SMT Spacers; Match Code: WA-SMSI; Mount: Surface Mount; Operating Temperature Max: 150°C; Operating Temperature Min: -55°C; Packaging: Bulk; Height: 10mm; Material: Steel; Outside Diameter: 8.2mm; Thread Size: M4
footprint 9774100482
pins: 1

## 9774100482R
designator MP?, comment M4 x 10mm  (value not drawn)
WA-SMSI SMT Steel Spacer with internal Thread, OD 8.2mm, M4 x 10mm; Manufacturer Part Number: 9774100482R; Manufacturer: Wurth Elektronik; Inside Diameter: 5.2mm; Surface: Tin; ComponentLink1Description: Website Link; ComponentLink1URL: https://www.we-online.com/redexpert/article/9774100482R?ad; ComponentLink2Description: Datasheet Link; ComponentLink2URL: https://www.we-online.com/redexpert/spec/9774100482R?ad; Category: SMT Spacers; Match Code: WA-SMSI; Mount: Surface Mount; Operating Temperature Max: 150°C; Operating Temperature Min: -55°C; Packaging: Tape and Reel; Height: 10mm; Material: Steel; Outside Diameter: 8.2mm; Thread Size: M4
footprint 9774100482
pins: 1

## 9774110360
designator MP?, comment M3 x 11mm  (value not drawn)
WA-SMSI SMT Steel Spacer with internal Thread, OD 6mm, M3 x 11mm; Manufacturer Part Number: 9774110360; Manufacturer: Wurth Elektronik; Inside Diameter: 4.2mm; Surface: Tin; ComponentLink1Description: Website Link; ComponentLink1URL: https://www.we-online.com/redexpert/article/9774110360?ad; ComponentLink2Description: Datasheet Link; ComponentLink2URL: https://www.we-online.com/redexpert/spec/9774110360?ad; Category: SMT Spacers; Match Code: WA-SMSI; Mount: Surface Mount; Operating Temperature Max: 150°C; Operating Temperature Min: -55°C; Packaging: Bulk; Height: 11mm; Material: Steel; Outside Diameter: 6mm; Thread Size: M3
footprint 9774110360
pins: 1

## 9774110360R
designator MP?, comment M3 x 11mm  (value not drawn)
WA-SMSI SMT Steel Spacer with internal Thread, OD 6mm, M3 x 11mm; Manufacturer Part Number: 9774110360R; Manufacturer: Wurth Elektronik; Inside Diameter: 4.2mm; Surface: Tin; ComponentLink1Description: Website Link; ComponentLink1URL: https://www.we-online.com/redexpert/article/9774110360R?ad; ComponentLink2Description: Datasheet Link; ComponentLink2URL: https://www.we-online.com/redexpert/spec/9774110360R?ad; Category: SMT Spacers; Match Code: WA-SMSI; Mount: Surface Mount; Operating Temperature Max: 150°C; Operating Temperature Min: -55°C; Packaging: Tape and Reel; Height: 11mm; Material: Steel; Outside Diameter: 6mm; Thread Size: M3
footprint 9774110360
pins: 1

## 9774120360
designator MP?, comment M3 x 12mm  (value not drawn)
WA-SMSI SMT Steel Spacer with internal Thread, OD 6mm, M3 x 12mm; Manufacturer Part Number: 9774120360; Manufacturer: Wurth Elektronik; Inside Diameter: 4.2mm; Surface: Tin; ComponentLink1Description: Website Link; ComponentLink1URL: https://www.we-online.com/redexpert/article/9774120360?ad; ComponentLink2Description: Datasheet Link; ComponentLink2URL: https://www.we-online.com/redexpert/spec/9774120360?ad; Category: SMT Spacers; Match Code: WA-SMSI; Mount: Surface Mount; Operating Temperature Max: 150°C; Operating Temperature Min: -55°C; Packaging: Bulk; Height: 12mm; Material: Steel; Outside Diameter: 6mm; Thread Size: M3
footprint 9774120360
pins: 1

## 9774120360R
designator MP?, comment M3 x 12mm  (value not drawn)
WA-SMSI SMT Steel Spacer with internal Thread, OD 6mm, M3 x 12mm; Manufacturer Part Number: 9774120360R; Manufacturer: Wurth Elektronik; Inside Diameter: 4.2mm; Surface: Tin; ComponentLink1Description: Website Link; ComponentLink1URL: https://www.we-online.com/redexpert/article/9774120360R?ad; ComponentLink2Description: Datasheet Link; ComponentLink2URL: https://www.we-online.com/redexpert/spec/9774120360R?ad; Category: SMT Spacers; Match Code: WA-SMSI; Mount: Surface Mount; Operating Temperature Max: 150°C; Operating Temperature Min: -55°C; Packaging: Tape and Reel; Height: 12mm; Material: Steel; Outside Diameter: 6mm; Thread Size: M3
footprint 9774120360
pins: 1

## 9774130360
designator MP?, comment M3 x 13mm  (value not drawn)
WA-SMSI SMT Steel Spacer with internal Thread, OD 6mm, M3 x 13mm; Manufacturer Part Number: 9774130360; Manufacturer: Wurth Elektronik; Inside Diameter: 4.2mm; Surface: Tin; ComponentLink1Description: Website Link; ComponentLink1URL: https://www.we-online.com/redexpert/article/9774130360?ad; ComponentLink2Description: Datasheet Link; ComponentLink2URL: https://www.we-online.com/redexpert/spec/9774130360?ad; Category: SMT Spacers; Match Code: WA-SMSI; Mount: Surface Mount; Operating Temperature Max: 150°C; Operating Temperature Min: -55°C; Packaging: Bulk; Height: 13mm; Material: Steel; Outside Diameter: 6mm; Thread Size: M3
footprint 9774130360
pins: 1